# Altium footprint library CMF5540K000BHEB.PcbLib: 1 footprints
Each footprint in its own frame and in the unit in brackets; x right, y up, seen from the top. Pads: shape width x height; smd on the part's side, far side on the other; paste and mask are expansions set on the pad; w line width, h text height; cw(c..) or ccw(c..) is an arc to the next point about the centre after c.
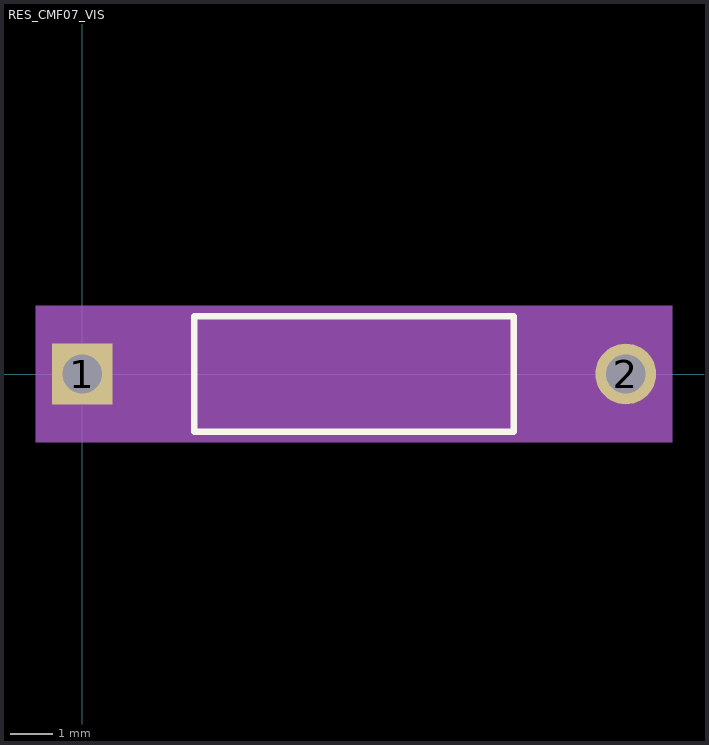
[diagram p0: the footprint, top view; thin cyan lines are the x and y axes]

## RES_CMF07_VIS [mil]
pads (2):
  rect 57x57 hole 37 mask+0: 1(0,0)
  round 57 hole 37 mask+0: 2(510,0)
Top Overlay:
  lines w6: 105,-54 405,-54 405,54 105,54 105,-54
Mechanical 5:
  region: 553.5,-64 -43.5,-64 -43.5,64 553.5,64
Mechanical 13:
  lines w1: 0,0 110,0 ; 400,0 510,0 ; 110,-49 400,-49 400,49 110,49 110,-49
Mechanical 15:
  region: 100,-38.5 -38.5,-38.5 -38.5,38.5 100,38.5 100,59 410,59 410,38.5 548.5,38.5 548.5,-38.5 410,-38.5 410,-59 100,-59
  lines w6: -38.5,-38.5 -38.5,38.5 100,38.5 100,59 410,59 410,38.5 548.5,38.5 548.5,-38.5 410,-38.5 410,-59 100,-59 100,-38.5 -38.5,-38.5
3D body "RES_CMF07_VIS.step": height 97.63, standoff -110, extent -13.5,-48.9 523.5,48.9